# EAGLE library part REC10K-2405SAW_H2 (library REC10K-2405SAW_H2)
10W DC/DC-Converter 'ECONOLINE' 1"x1" 1.6kV reg 4:1 Source: Datasheet <https://recom-power.com/pdf/Econoline/REC10K-AW.pdf>
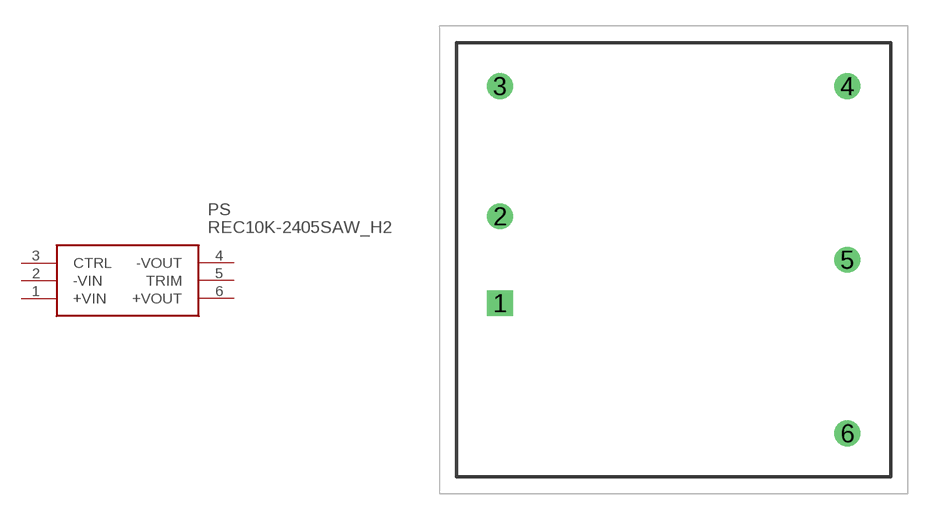
[diagram p0: symbol with the pads of REC10K-AW; footprint REC10K-AW]

Designator prefix PS

## REC10K-2405SAW_H2 (Description: 10W DC/DC-Converter 'ECONOLINE' 1"x1" 1.6kV reg 4:1; Height: 10.7mm; Manufacturer_Name: RECOM Power; Manufacturer_Part_Number: REC10K-2405SAW/H2)  [REC10K-AW]
1  +VIN
2  -VIN
3  CTRL
4  -VOUT
5  TRIM
6  +VOUT

## Footprint REC10K-AW (pad centres in mm)
REC10K-AW
drill 1 pad 1.5 square: 1 -10.16,-2.54
drill 1 pad 1.5: 2 -10.16,2.54; 3 -10.16,10.16; 4 10.16,10.16; 5 10.16,0; 6 10.16,-10.16